# Altium schematic symbol library BNO085.SchLib: 1 symbol
Pins are listed as number, name and electrical type; pins without a type are passive.

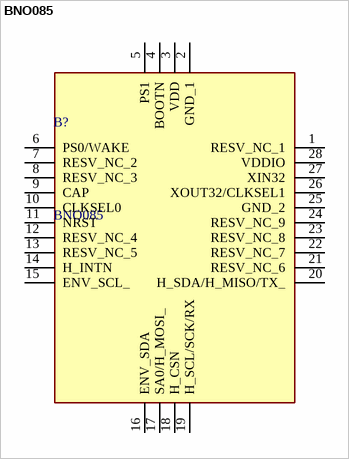
[diagram p0: symbol BNO085]

## BNO085
designator B?
Board Mount Motion & Position Sensors 9-axis IMU; Manufacturer_Name: CEVA; Geometry.Height: 1.18mm; Mouser Part Number: 526-BNO085; Mouser Price/Stock: https://www.mouser.co.uk/ProductDetail/CEVA/BNO085?qs=ulEaXIWI0c9BFVeZDQCmmQ%3D%3D; Manufacturer_Part_Number: BNO085; Datasheet Link: https://www.ceva-dsp.com/wp-content/uploads/2019/10/BNO080_085-Datasheet.pdf
footprint BNO085
pins: 1 RESV_NC_1, 2 GND_1, 3 VDD, 4 BOOTN, 5 PS1, 6 PS0/WAKE, 7 RESV_NC_2, 8 RESV_NC_3, 9 CAP, 10 CLKSEL0, 11 NRST, 12 RESV_NC_4, 13 RESV_NC_5, 14 H_INTN, 15 ENV_SCL_, 16 ENV_SDA, 17 SA0/H_MOSI_, 18 H_CSN, 19 H_SCL/SCK/RX, 20 H_SDA/H_MISO/TX_, 21 RESV_NC_6, 22 RESV_NC_7, 23 RESV_NC_8, 24 RESV_NC_9, 25 GND_2, 26 XOUT32/CLKSEL1, 27 XIN32, 28 VDDIO